# EAGLE library part 62002421821 (library Wurth_Elektronik2)
WR-PHD 2.00mm Dual Socket Header, 24 Pins=>Code : Con_BTB_SHD_2.00_2_62002421821 <http://katalog.we-online.de/media/thumbs2/eican/thb_Con_BTB_SHD_2.00_2_6200xx21821_pf2.jpg> Details see: http://katalog.we-online.de/en/em/620_0xx_218_21 Created 2014-06-03, Karrer Zheng 2014 (C) Würth Elektronik
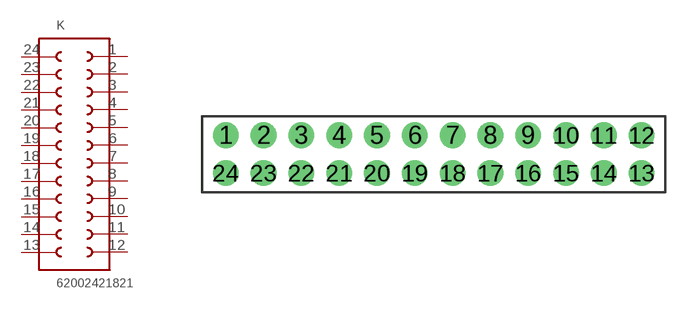
[diagram p261: symbol with the pads of 62002421821; footprint 62002421821]

Designator prefix K

## 62002421821  [62002421821]
1  1  pas
2  2  pas
3  3  pas
4  4  pas
5  5  pas
6  6  pas
7  7  pas
8  8  pas
9  9  pas
10  10  pas
11  11  pas
12  12  pas
13  13  pas
14  14  pas
15  15  pas
16  16  pas
17  17  pas
18  18  pas
19  19  pas
20  20  pas
21  21  pas
22  22  pas
23  23  pas
24  24  pas

## Footprint 62002421821 (pad centres in mm)
WR-PHD 2.00mm Dual Socket Header, 24 Pins
drill 0.85: 1 -11,1; 2 -9,1; 3 -7,1; 4 -5,1; 5 -3,1; 6 -1,1; 7 1,1; 8 3,1; 9 5,1; 10 7,1; 11 9,1; 12 11,1; 13 11,-1; 14 9,-1; 15 7,-1; 16 5,-1; 17 3,-1; 18 1,-1; 19 -1,-1; 20 -3,-1; 21 -5,-1; 22 -7,-1; 23 -9,-1; 24 -11,-1